# Altium schematic symbol library TPS22908.SchLib: 1 symbol
Pins are listed as number, name and electrical type; pins without a type are passive.

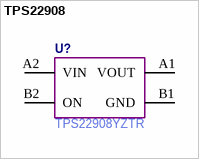
[diagram p0: symbol TPS22908]

## TPS22908
designator U?  Manufacturer Part Number: TPS22908YZTR  (hidden comment: TPS22908)
pins: A1 VOUT, A2 VIN, B1 GND, B2 ON